# EAGLE library part HEADER-6P-DIP-2_54MM (library SamacSys_Parts)
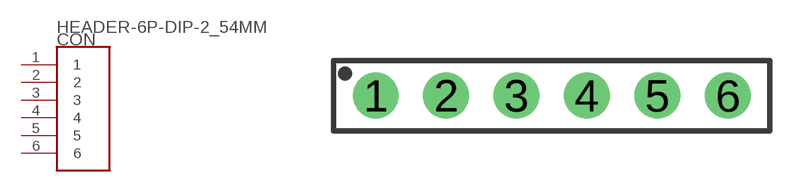
[diagram p2: symbol with the pads of HEADER-6P-DIP-2_54MM; footprint HEADER-6P-DIP-2_54MM]

Designator prefix CON

## HEADER-6P-DIP-2_54MM  [HEADER-6P-DIP-2_54MM]
1  1
2  2
3  3
4  4
5  5
6  6

## Footprint HEADER-6P-DIP-2_54MM (pad centres in mm)
825433-5
drill 1.1 pad 1.65: 1 0,0; 2 2.54,0; 3 5.08,0; 4 7.62,0; 5 10.16,0; 6 12.7,0